# Altium schematic symbol library Relays.SchLib: 1 symbol
Pins are listed as number, name and electrical type; pins without a type are passive.

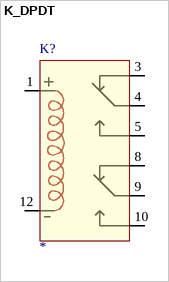
[diagram p0: symbol K_DPDT]

## K_DPDT
designator K?
MP: IM01TS; MF: TE Connectivity; Package: DIP-8 TE Connectivity; SnapEDA_Link: https://www.snapeda.com/parts/IM01TS/TE%2520Connectivity%2520Potter%2520%2526%2520Brumfield%2520Relays/view-part/?ref=snap; Availability: Good; Price: 2.38 USD; Value: *
pins: 1, 3, 4, 5, 8, 9, 10, 12